# EAGLE library part TA7267BP (library okamoto)
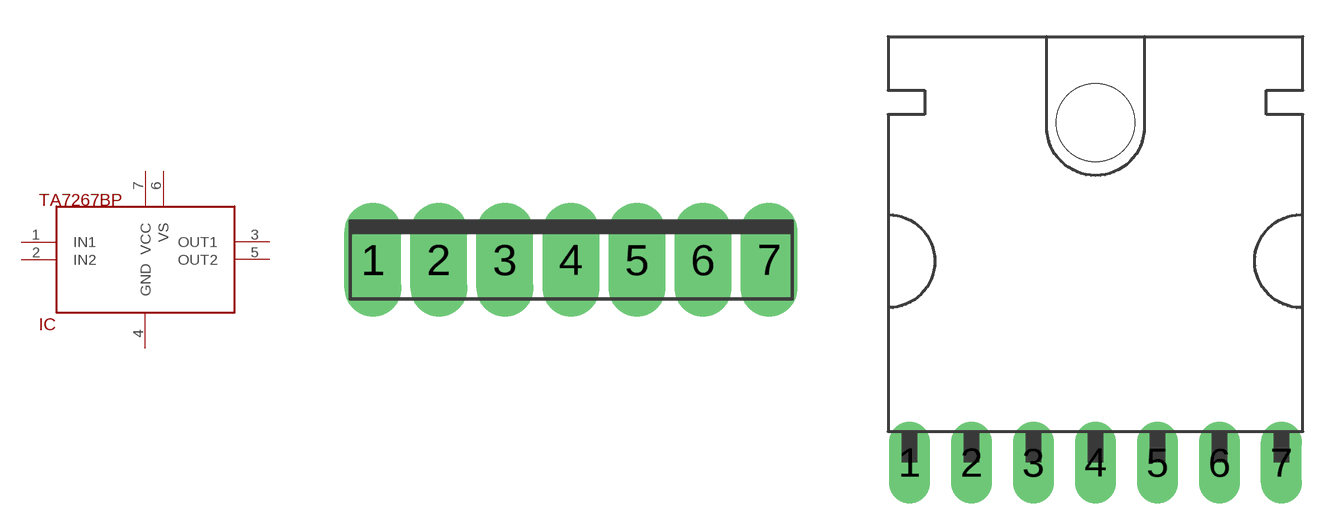
[diagram p13: symbol with the pads of HSIP7-P-2.54A; footprints HSIP7-P-2.54A, HSIP7-P-2.54A(LIE)]

Designator prefix IC

## TA7267BP  [HSIP7-P-2.54A]
1  IN1
2  IN2
3  OUT1
4  GND
5  OUT2
6  VS
7  VCC

## TA7267BPLIE  [HSIP7-P-2.54A(LIE)]
1  IN1
2  IN2
3  OUT1
4  GND
5  OUT2
6  VCC
7  VS

## Footprint HSIP7-P-2.54A (pad centres in mm)
drill 1 pad 2.184 long: 1 -7.62,0; 2 -5.08,0; 3 -2.54,0; 4 0,0; 5 2.54,0; 6 5.08,0; 7 7.62,0

## Footprint HSIP7-P-2.54A(LIE) (pad centres in mm)
drill 1 pad 1.676 long: 1 -7.62,0; 2 -5.08,0; 3 -2.54,0; 4 0,0; 5 2.54,0; 6 5.08,0; 7 7.62,0
hole 3.2 at 0,13.94